# Altium footprint library electronic_dc_load_v1.PcbLib: 32 footprints (part 1 of 2)
Each footprint in its own frame and in the unit in brackets; x right, y up, seen from the top. Pads: shape width x height; smd on the part's side, far side on the other; paste and mask are expansions set on the pad; w line width, h text height; cw(c..) or ccw(c..) is an arc to the next point about the centre after c.
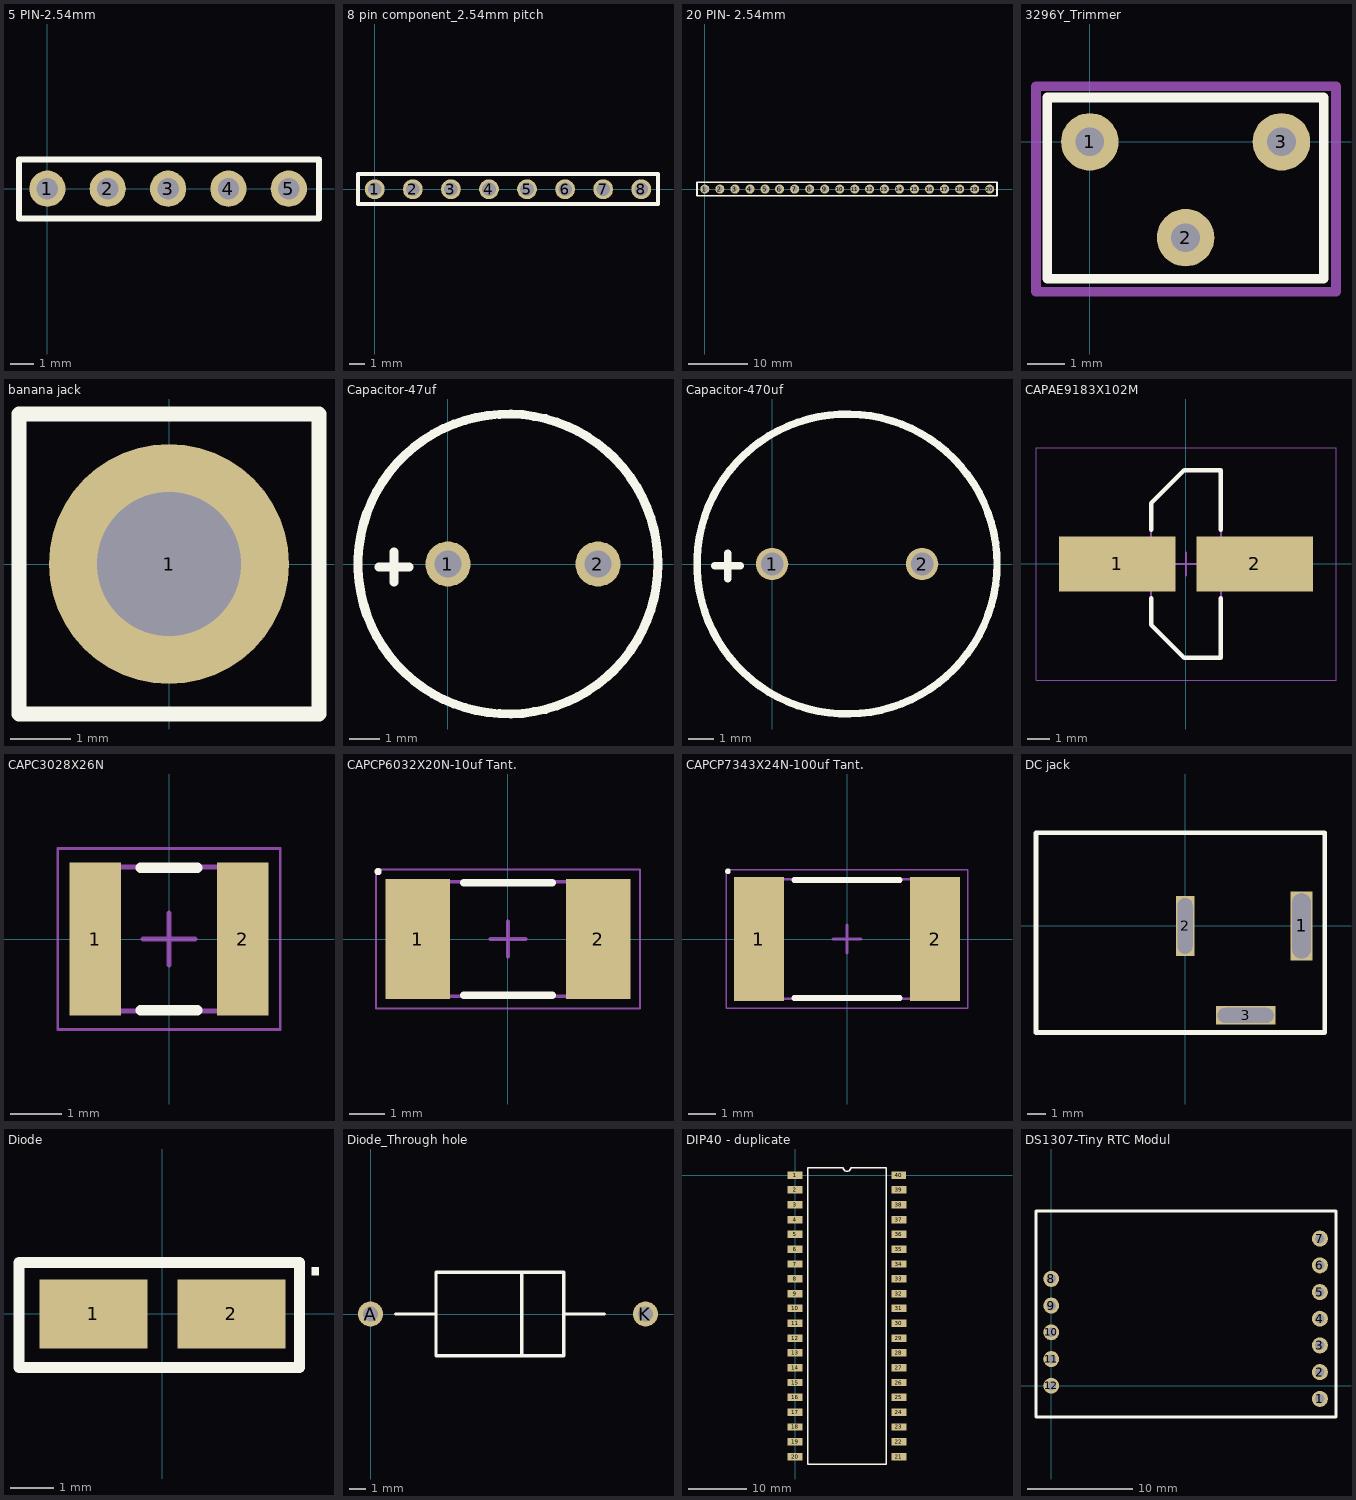
[diagram p0: the footprints below, top view; thin cyan lines are the x and y axes]

## 5 PIN-2.54mm [mil]
pads (5):
  round 60 hole 35.43: 1(0,0) 2(100,0) 3(200,0) 4(300,0) 5(400,0)
Top Overlay:
  lines w10: -47,-49 450,-49 450,48 -47,48 -47,-49
3D body "pcb_connector_801-87-005-65-001101.stp": height 275.63, standoff -110.24, extent -47,-50.5 453,49.5

## 8 pin component_2.54mm pitch [mm]
pads (8):
  round 1.3 hole 0.9: 1(0,0) 2(2.5,0) 3(5,0) 4(7.5,0) 5(10,0) 6(12.5,0) 7(15,0) 8(17.5,0)
Top Overlay:
  lines w0.254: -1.1,-0.975 18.6,-0.975 18.6,1 -1.1,1 -1.1,-0.975
3D body "71071832.stp": height 9.27, standoff -2.27, extent -1.46,-1.24 18.86,1.3

## 20 PIN- 2.54mm [mil]
pads (20):
  round 60 hole 35.43: 1(0,0) 2(100,0) 3(200,0) 4(300,0) 5(400,0) 6(496.85,0) 7(596.85,0) 8(696.85,0) 9(796.85,0) 10(896.85,0) 11(996.85,0) 12(1095.28,0) 13(1193.7,0) 14(1293.7,0) 15(1393.7,0) 16(1493.7,0) 17(1593.7,0) 18(1693.7,0) 19(1793.7,0) 20(1893.7,0)
Top Overlay:
  lines w10: -52,-45 1942,-45 1942,46 -52,46 -52,-45

## 3296Y_Trimmer [mil] "3296Y_Trimmer"
pads (3):
  round 60 hole 30: 1(0,0) 2(100,-100) 3(200,0)
Top Overlay:
  lines w10: -44.29,-142.72 244.09,-142.72 244.09,46.26 -44.29,46.26 -44.29,-142.72
Mechanical 15:
  lines w10: -56.1,-156.5 256.89,-156.5 256.89,58.07 -56.1,58.07 -56.1,-156.5
3D body "User Library-3296Y.step": height 454.72, standoff -82.68, extent -89.17,-141.73 286.03,47.24

## banana jack [mm]
pads (1):
  round 4 hole 2.4: 1(0,0)
Top Overlay:
  lines w0.254: -2.5,-2.5 2.5,-2.5 2.5,2.5 -2.5,2.5 -2.5,-2.5

## Capacitor-47uf [mm]
pads (2):
  round 1.5 hole 0.9: 1(0,0) 2(5,0)
Top Overlay:
  circle w0.3: c2,0 r5
  lines w0.3: -2.308,-0.1 -1.292,-0.1 ; -1.8,-0.608 -1.8,0.408
3D body "User Library-CAP_5X11_P5.step": height 14, standoff -2.05, extent -0.25,-2.5 5.25,2.5

## Capacitor-470uf [mm]
pads (2):
  round 1.3 hole 0.9: 1(0,0) 2(6,0)
Top Overlay:
  circle w0.3: c3,0 r6
  lines w0.3: -2.283,-0.075 -1.267,-0.075 ; -1.775,-0.583 -1.775,0.433
3D body "User Library-CAPAER_D160_L170_P075_W008X030.STEP": height 17.01, standoff -3, extent -4.635,-8.1 11.375,7.9

## CAPAE9183X102M [mm] "Aluminum Electrolytic Capacitor, Body 3.10x8.30x10.20mm, IPC Low Density"
height 10.2
pads (2):
  rect 5.15x2.45 smd: 1(-3.05,0) 2(3.05,0)
Top Overlay:
  lines w0.2: -1.55,-1.525 -1.55,-2.688 -0.087,-4.15 1.55,-4.15 1.55,-1.525 ; -1.55,1.525 -1.55,2.687 -0.087,4.15 1.55,4.15 1.55,1.525
Mechanical 13:
  lines w0.1: -1.55,-2.688 -0.087,-4.15 1.55,-4.15 1.55,4.15 -0.087,4.15 -1.55,2.687 -1.55,-2.688
Mechanical 15:
  lines w0.05: -6.65,-5.15 -6.65,5.15 6.65,5.15 6.65,-5.15 -6.65,-5.15
  lines w0.1: -0.5,0 0.5,0 ; 0,-0.5 0,0.5
3D body "User Library-capacitor size D8.STEP": height 7.71, standoff -0.01, extent -3.5,-3.1 3.5,3.5

## CAPC3028X26N [mm] "Chip Capacitor, 2-Leads, Body 2.98x2.79mm, IPC Medium Density"
height 2.59
pads (2):
  rect 1x2.95 smd: 1(-1.425,0) 2(1.425,0)
Top Overlay:
  lines w0.2: -0.55,-1.375 0.55,-1.375 ; -0.55,1.375 0.55,1.375
Mechanical 13:
  lines w0.1: -1.49,-1.395 1.49,-1.395 1.49,1.395 -1.49,1.395 -1.49,-1.395
Mechanical 15:
  lines w0.05: -2.15,-1.75 2.15,-1.75 2.15,1.75 -2.15,1.75 -2.15,-1.75
  lines w0.1: -0.5,0 0.5,0 ; 0,-0.5 0,0.5
3D body: height 2.59, standoff 0, extent 0.99,-1.395 1.49,1.395
3D body: height 2.59, standoff 0, extent -1.49,-1.395 -0.99,1.395
3D body: height 2.59, standoff 0, extent -0.99,-1.395 0.99,1.395

## CAPCP6032X20N-10uf Tant. [mm] "Chip Capacitor, 2-Leads, Body 6.00x3.20mm, IPC Medium Density"
height 2
pads (2):
  rect 1.8x3.35 smd: 1(-2.525,0) 2(2.525,0)
Top Overlay:
  circle w0.1: c-3.637,1.887 r0.05
  lines w0.2: -1.25,-1.575 1.25,-1.575 ; -1.25,1.575 1.25,1.575
Mechanical 13:
  lines w0.1: -3,-1.6 3,-1.6 3,1.6 -3,1.6 -3,-1.6
Mechanical 15:
  lines w0.05: -3.7,-1.95 3.7,-1.95 3.7,1.95 -3.7,1.95 -3.7,-1.95
  lines w0.1: -0.5,0 0.5,0 ; 0,-0.5 0,0.5
3D body: height 2, standoff 0, extent 1.7,-1.6 3,1.6
3D body: height 2, standoff 0, extent -3,-1.6 -1.7,1.6
3D body: height 2, standoff 0, extent -1.7,-1.6 1.7,1.6

## CAPCP7343X24N-100uf Tant. [mm] "Chip Capacitor, 2-Leads, Body 7.30x4.30mm, IPC Medium Density"
height 2.4
pads (2):
  rect 1.8x4.45 smd: 1(-3.175,0) 2(3.175,0)
Top Overlay:
  circle w0.1: c-4.287,2.437 r0.05
  lines w0.2: -1.9,-2.125 1.9,-2.125 ; -1.9,2.125 1.9,2.125
Mechanical 13:
  lines w0.1: -3.65,-2.15 -3.65,2.15 3.65,2.15 3.65,-2.15 -3.65,-2.15
Mechanical 15:
  lines w0.05: -4.35,-2.5 -4.35,2.5 4.35,2.5 4.35,-2.5 -4.35,-2.5
  lines w0.1: -0.5,0 0.5,0 ; 0,-0.5 0,0.5
3D body: height 2.4, standoff 0, extent -2.35,-2.15 2.35,2.15
3D body: height 2.4, standoff 0, extent -3.65,-2.15 -2.35,2.15
3D body: height 2.4, standoff 0, extent 2.35,-2.15 3.65,2.15

## DC jack [mm] "KLDHCX-0202-AC-1"
pads (3):
  rect 1.2x3.7 hole 3.5 slot 1 at 0 deg: 1(6.25,0)
  rect 1x3.2 hole 3 slot 0.8 at 0 deg: 2(0,0)
  rect 3.2x1 hole 3 slot 0.8 at 90 deg: 3(3.25,-4.8)
Top Overlay:
  lines w0.254: -8,-5.715 7.5,-5.715 7.5,5 -8,5 -8,-5.715
3D body "User Library-RAPC722 Audio Jack.step": height 10.99, standoff -3.42, extent -7.25,-4.925 7,4.549

## Diode [mm]
pads (2):
  rect 2.5x1.6 smd: 1(-1.6,0) 2(1.6,0)
Top Overlay:
  rectangle: 3.454,0.889 3.632,1.092
  lines w0.254: -3.327,-1.245 3.175,-1.245 3.175,1.194 -3.327,1.194 -3.327,-1.245
3D body "User Library-LED 1206 RED.step": height 1.1, standoff 0, extent -1.6,-0.8 1.6,0.8

## Diode_Through hole [mm]
pads (2):
  round 1.5 hole 0.9: A(0,0) K(16.475,0)
Top Overlay:
  lines w0.2: 1.5,0 3.925,0 ; 9.058,-2.5 9.058,2.5 ; 11.575,0 14,0 ; 3.925,0 3.925,2.5 11.575,2.5 11.575,-2.5 3.925,-2.5 3.925,0
3D body "CircuitWorks-DIODE0_7.step": height 5.98, standoff -1, extent -0.817,-2.58 17.217,2.5

## DIP40 - duplicate [mm]
pads (40):
  rect 2.54x1.27 smd: 1(0,0) 2(0,-2.54) 3(0,-5.08) 4(0,-7.62) 5(0,-10.16) 6(0,-12.7) 7(0,-15.24) 8(0,-17.78) 9(0,-20.32) 10(0,-22.86) 11(0,-25.4) 12(0,-27.94) 13(0,-30.48) 14(0,-33.02) 15(0,-35.56) 16(0,-38.1) 17(0,-40.64) 18(0,-43.18) 19(0,-45.72) 20(0,-48.26) 21(17.78,-48.26) 22(17.78,-45.72) 23(17.78,-43.18) 24(17.78,-40.64) 25(17.78,-38.1) 26(17.78,-35.56) 27(17.78,-33.02) 28(17.78,-30.48) 29(17.78,-27.94) 30(17.78,-25.4) 31(17.78,-22.86) 32(17.78,-20.32) 33(17.78,-17.78) 34(17.78,-15.24) 35(17.78,-12.7) 36(17.78,-10.16) 37(17.78,-7.62) 38(17.78,-5.08) 39(17.78,-2.54)
  rect 2.5x1.27 smd: 40(17.78,0)
Top Overlay:
  lines w0.254: 2.159,-49.53 2.159,1.27 8.255,1.27 ccw(c8.89,1.27) 9.525,1.27 15.621,1.27 15.621,-49.53 2.159,-49.53
3D body "User Library-PIC18F4550-DIP40-600.step": height 11.7, standoff 3.42, extent 1.4,-50.425 16.89,2.025
3D body "User Library-40pin 0_6inch 2_54mm IC DIP-SMD Socket Round Hole.step": height 5.51, standoff -0.08, extent -1.12,-49.53 18.9,1.27

## DS1307-Tiny RTC Modul [mil]
pads (12):
  round 60 hole 35.43: 1(1006,-49.21) 2(1005.98,50.79) 3(1005.98,150.79) 4(1005.98,250.79) 5(1005.98,350.79) 6(1005.98,450.79) 7(1005.98,550.79) 8(0,400) 9(0,300) 10(0,200) 11(0,100) 12(0,0)
Top Overlay:
  lines w10: -57,-117 1066,-117 1066,654 -57,654 -57,-117
3D body "User Library-TINY RTC.step": height 346.46, standoff 9.84, extent -39.37,-98.42 1062.99,885.83